# Altium footprint library PC_PSU.PcbLib: 4 footprints
Each footprint in its own frame and in the unit in brackets; x right, y up, seen from the top. Pads: shape width x height; smd on the part's side, far side on the other; paste and mask are expansions set on the pad; w line width, h text height; cw(c..) or ccw(c..) is an arc to the next point about the centre after c.
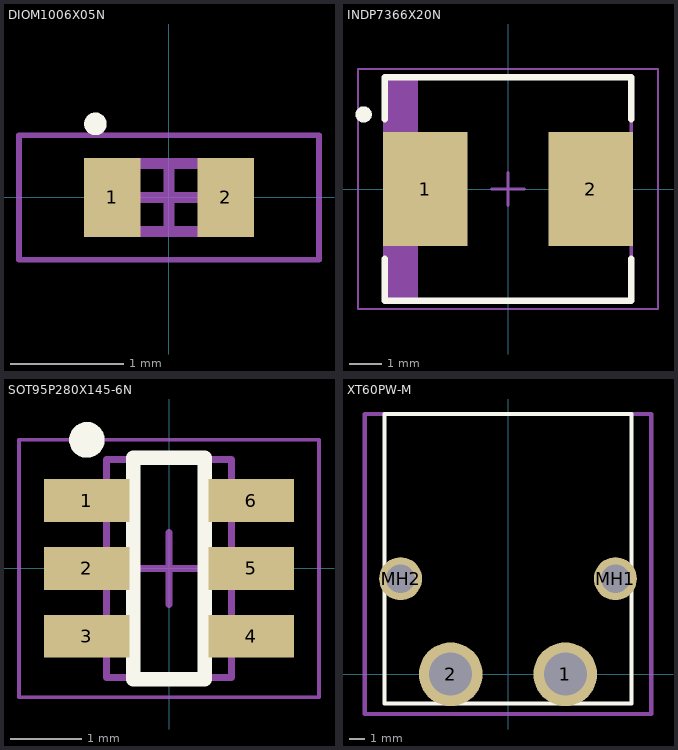
[diagram p0: the footprints below, top view; thin cyan lines are the x and y axes]

## DIOM1006X05N [mm] "Molded Diode, 2-Leads, Body 1,00x0,60mm, IPC Medium Density"
height 0.5
pads (2):
  rect 0.5x0.7 smd: 1(-0.5,0) 2(0.5,0)
Top Overlay:
  circle w0.1: c-0.65,0.65 r0.05
Mechanical 13:
  rectangle: -0.5,-0.3 -0.365,0.3
  lines w0.1: -0.5,-0.3 0.5,-0.3 0.5,0.3 -0.5,0.3 -0.5,-0.3
Mechanical 15:
  lines w0.05: -1.325,-0.55 1.325,-0.55 1.325,0.55 -1.325,0.55 -1.325,-0.55
  lines w0.1: -0.3,0 0.3,0 ; 0,-0.3 0,0.3
3D body "DIOM1006X05N.step": height 0.5, standoff 0, extent -0.72,-0.3 0.72,0.3

## INDP7366X20N [mm] "Precision Wire Wound Inductor, 2-Leads, Body 7,30x6,60mm, IPC Medium Density"
height 2
pads (2):
  rect 2.6x3.5 smd: 1(-2.55,0) 2(2.55,0)
Top Overlay:
  circle w0.25: c-4.45,2.3 r0.125
  lines w0.2: -3.8,-2.15 -3.8,-3.45 3.8,-3.45 3.8,-2.15 ; -3.8,2.15 -3.8,3.45 3.8,3.45 3.8,2.15
Mechanical 13:
  rectangle: -3.8,-3.45 -2.778,3.45
  lines w0.1: -3.8,-3.45 3.8,-3.45 3.8,3.45 -3.8,3.45 -3.8,-3.45
Mechanical 15:
  lines w0.05: -4.625,-3.7 4.625,-3.7 4.625,3.7 -4.625,3.7 -4.625,-3.7
  lines w0.1: -0.5,0 0.5,0 ; 0,-0.5 0,0.5
3D body: height 2.11, standoff 0.11, extent -3.805,-3.302 3.805,3.302
3D body "INDP7366X20N.step": height 2.1, standoff 0, extent -3.75,-3.3 3.75,3.3

## SOT95P280X145-6N [mm] "SOT23, 6-Leads, Body 2,93x2,80mm, Pitch 0,95mm, IPC Medium Density"
height 1.45
pads (6):
  rect 1.2x0.6 smd: 1(-1.15,0.95) 2(-1.15,0) 3(-1.15,-0.95) 4(1.15,-0.95) 5(1.15,0) 6(1.15,0.95)
Top Overlay:
  circle w0.25: c-1.15,1.8 r0.125
  lines w0.2: -0.5,-1.55 -0.5,1.55 0.5,1.55 0.5,-1.55 -0.5,-1.55
Mechanical 13:
  lines w0.1: -0.875,-1.525 0.875,-1.525 0.875,1.525 -0.875,1.525 -0.875,-1.525
Mechanical 15:
  lines w0.05: -2.1,-1.8 2.1,-1.8 2.1,1.8 -2.1,1.8 -2.1,-1.8
  lines w0.1: -0.5,0 0.5,0 ; 0,-0.5 0,0.5
3D body "SOT95P280X145-6N.step": height 1.45, standoff 0, extent -1.5,-1.525 1.5,1.525

## XT60PW-M [mm]
pads (4):
  round 4 hole 2.7: 1(3.6,0) 2(-3.6,0)
  round 2.7 hole 1.8: MH1(6.75,6) MH2(-6.75,6)
Top Overlay:
  lines w0.254: -7.75,-1.85 7.75,-1.85 7.75,16.35 -7.75,16.35 -7.75,-1.85
Mechanical 1:
  lines w0.254: -9,-2.5 9,-2.5 9,16.35 -9,16.35 -9,-2.5
3D body "XT60PW-M--3DModel-STEP-269445.STEP": height 8.4, standoff -2.55, extent -7.75,-1.85 7.75,16.35